# Altium schematic symbol library UGO_PCB.SchLib: 10 symbols
Pins are listed as number, name and electrical type; pins without a type are passive.

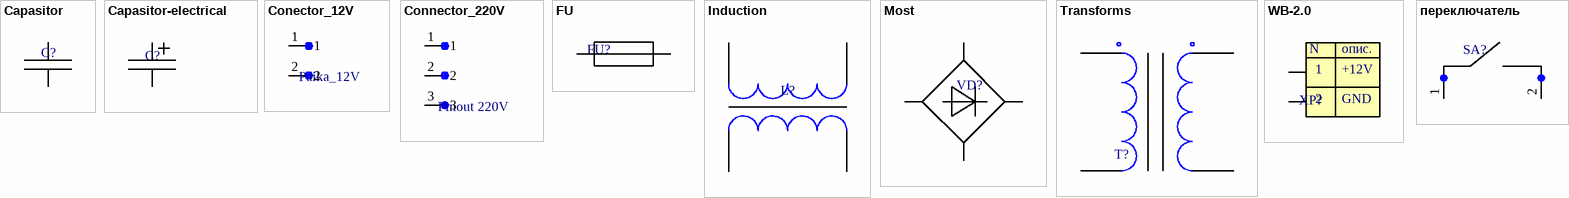
[diagram p0: symbols Capasitor to переключатель]

## Capasitor
designator C?  (value not drawn)
footprint JN1
pins: 1, 2

## Capasitor-electrical
designator C?  (value not drawn)
footprint RD1H108M12025BB
pins: 1, 2

## Conector_12V
designator *, comment Paika_12V
footprint Con_12
pins: 1, 2

## Connector_220V
designator *, comment Pinout 220V
footprint Con_220
pins: 1, 2, 3

## FU
designator FU?  (value not drawn)
footprint FU2A
pins: 1, 2

## Induction
designator L?  (value not drawn)
footprint ET24
pins: 1, 2, 3, 4

## Most
designator VD?  (value not drawn)
footprint RC-407
pins: 1, 2, 3, 4

## Transforms
designator T?  (value not drawn)
footprint TransformIE48
pins: 1, 6, 8, 11

## WB-2.0
designator XP?  (value not drawn)
footprint Con_5V
pins: 1, 2
text: N; опис.; +12V; GND

## переключатель
designator SA?  (value not drawn)
footprint Switcher
pins: 1, 2